# EAGLE library part SI5351A-B-GM (library My_Library)
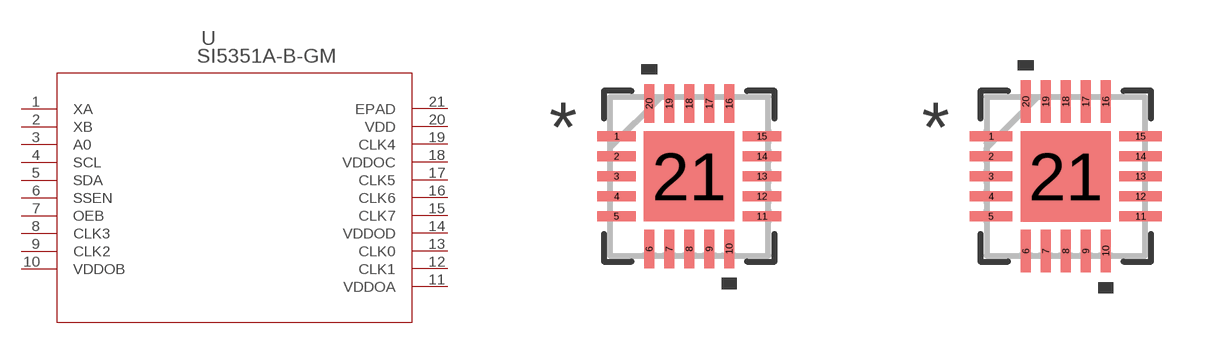
[diagram p1: symbol with the pads of QFN20_SIL; footprints QFN20_SIL, QFN20_SIL-M]

Designator prefix U

## SI5351A-B-GM (COPYRIGHT: Copyright (C) 2024 Ultra Librarian. All rights reserved.; MANUFACTURER_PART_NUMBER: SI5351A-B-GM; MFR_NAME: Silicon Labs)  [QFN20_SIL]
1  XA  in
2  XB  in
3  A0  in
4  SCL  in
5  SDA
6  SSEN  in
7  OEB  in
8  CLK3  out
9  CLK2  out
10  VDDOB  pwr
11  VDDOA  pwr
12  CLK1  out
13  CLK0  out
14  VDDOD  pwr
15  CLK7  out
16  CLK6  out
17  CLK5  out
18  VDDOC  pwr
19  CLK4  out
20  VDD  pwr
21  EPAD  pas

## SI5351A-B-GMQFN20_SIL-M (COPYRIGHT: Copyright (C) 2024 Ultra Librarian. All rights reserved.; MANUFACTURER_PART_NUMBER: SI5351A-B-GM; MFR_NAME: Silicon Labs)  [QFN20_SIL-M]
Pads as for QFN20_SIL

## SI5351A-B-GMQFN20_SIL-L (COPYRIGHT: Copyright (C) 2024 Ultra Librarian. All rights reserved.; MANUFACTURER_PART_NUMBER: SI5351A-B-GM; MFR_NAME: Silicon Labs)  [QFN20_SIL-L]
Pads as for QFN20_SIL

## Footprint QFN20_SIL (pad centres in mm)
smd 0.965 x 0.254: 1 -1.816,1; 2 -1.816,0.5; 3 -1.816,0; 4 -1.816,-0.5; 5 -1.816,-1; 11 1.816,-1; 12 1.816,-0.5; 13 1.816,0; 14 1.816,0.5; 15 1.816,1
smd 0.254 x 0.965: 6 -1,-1.816; 7 -0.5,-1.816; 8 0,-1.816; 9 0.5,-1.816; 10 1,-1.816; 16 1,1.816; 17 0.5,1.816; 18 0,1.816; 19 -0.5,1.816; 20 -1,1.816
smd 2.261 x 2.261: 21 0,0

## Footprint QFN20_SIL-M (pad centres in mm)
smd 1.067 x 0.254: 1 -1.867,1; 2 -1.867,0.5; 3 -1.867,0; 4 -1.867,-0.5; 5 -1.867,-1; 11 1.867,-1; 12 1.867,-0.5; 13 1.867,0; 14 1.867,0.5; 15 1.867,1
smd 0.254 x 1.067: 6 -1,-1.867; 7 -0.5,-1.867; 8 0,-1.867; 9 0.5,-1.867; 10 1,-1.867; 16 1,1.867; 17 0.5,1.867; 18 0,1.867; 19 -0.5,1.867; 20 -1,1.867
smd 2.261 x 2.261: 21 0,0

## Footprint QFN20_SIL-L (pad centres in mm)
smd 0.864 x 0.254: 1 -1.765,1; 2 -1.765,0.5; 3 -1.765,0; 4 -1.765,-0.5; 5 -1.765,-1; 11 1.765,-1; 12 1.765,-0.5; 13 1.765,0; 14 1.765,0.5; 15 1.765,1
smd 0.254 x 0.864: 6 -1,-1.765; 7 -0.5,-1.765; 8 0,-1.765; 9 0.5,-1.765; 10 1,-1.765; 16 1,1.765; 17 0.5,1.765; 18 0,1.765; 19 -0.5,1.765; 20 -1,1.765
smd 2.261 x 2.261: 21 0,0